# Altium schematic symbol library THTPushButtonSwitches.SchLib: 2 symbols
Pins are listed as number, name and electrical type; pins without a type are passive.

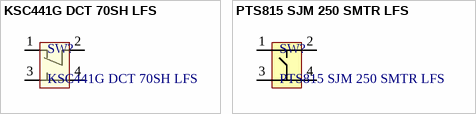
[diagram p0: symbols KSC441G DCT 70SH LFS to PTS815 SJM 250 SMTR LFS]

## KSC441G DCT 70SH LFS
designator SW?
TACT 6.2 X 6.2, 5.2 MM H, 4.75N, SPDT; Volt: 32V; Current: 0.05A; Supplier 1: Digi-Key; Supplier Part Number 1: CKN12187TR-ND; Mounted: Yes
footprint Switch_KSC441G DCT 70SH LFS
pins: 1, 2, 3, 4

## PTS815 SJM 250 SMTR LFS
designator SW?
TACT 4.2 X 3.2, 2.5 MM H, 180GF,; Volt: 12V; Current: 0.05A; Supplier 1: Digi-Key; Supplier Part Number 1: CKN12215-1-ND; Mounted: Yes; JLCPCB Part Number: C2689510
footprint SW4_PTS815 SJM 250 SMTR LFS_CNK
pins: 1, 2, 3, 4